# Altium schematic symbol library Bran.SCHLIB: 33 symbols
Pins are listed as number, name and electrical type; pins without a type are passive.

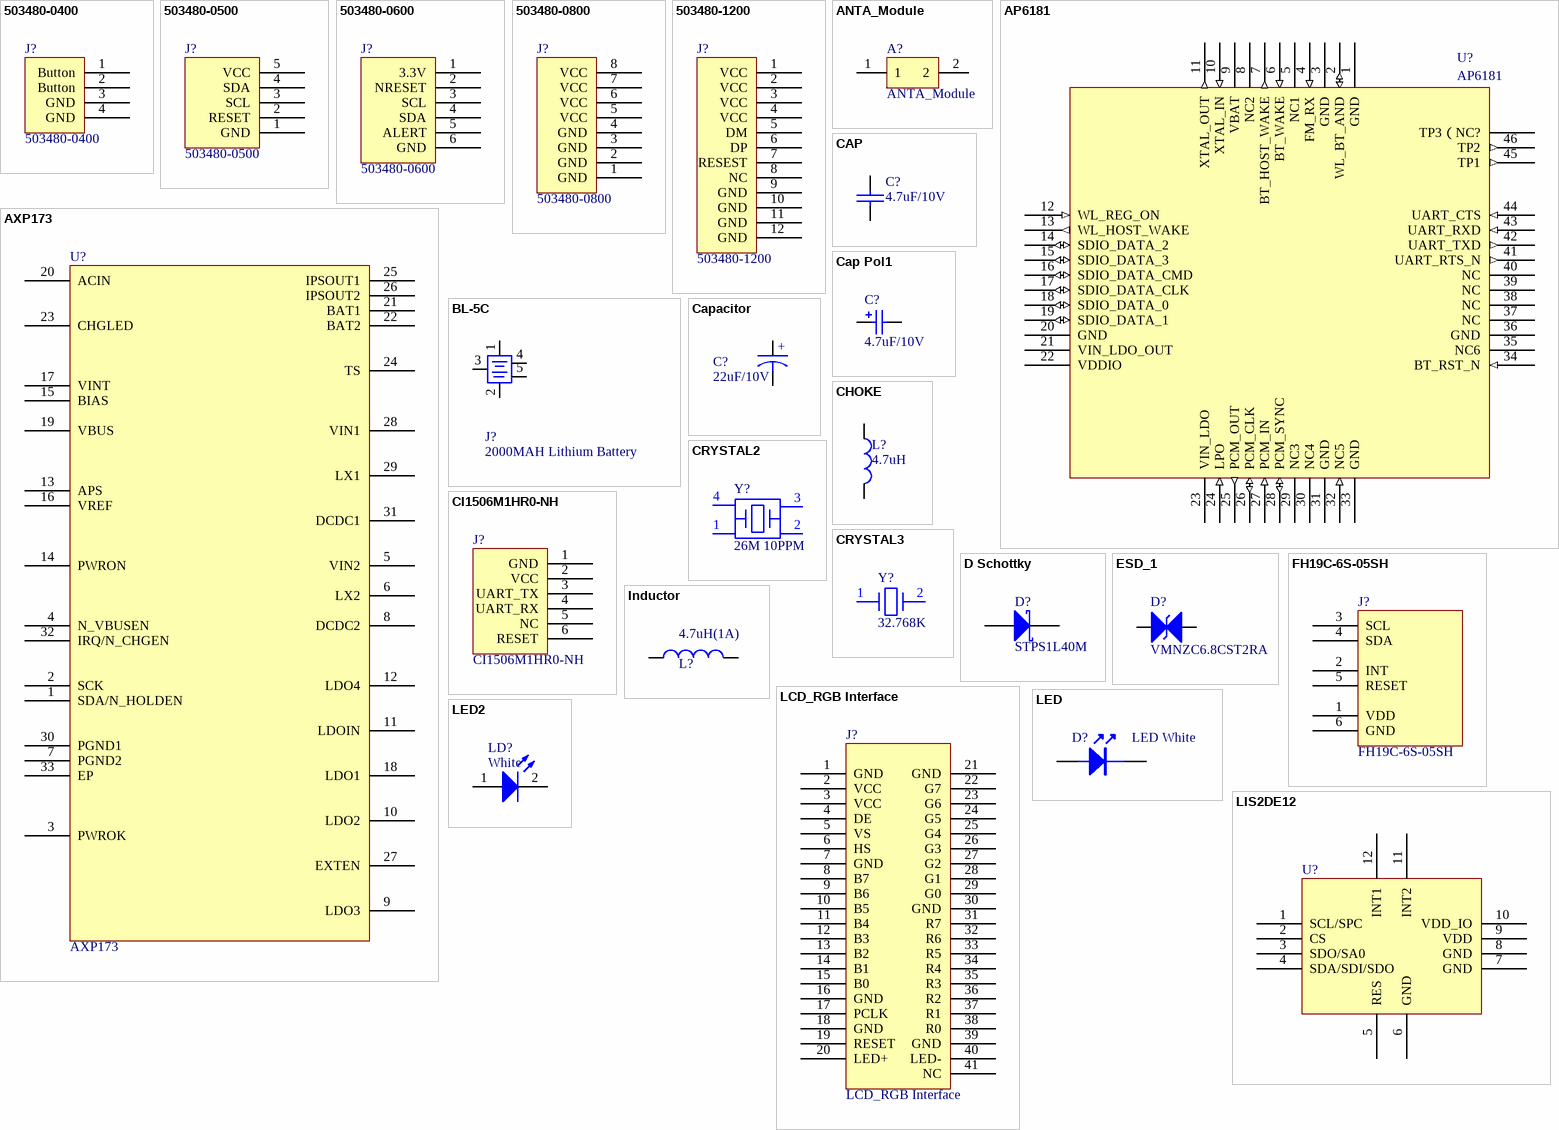
[diagram p0: symbols 503480-0400 to LIS2DE12]

## 503480-0400
designator J?
厂家：Molex，型号：503480-0400
pins: 1 Button, 2 Button, 3 GND, 4 GND

## 503480-0500
designator J?
厂家：Molex，型号：503480-0500
pins: 1 GND, 2 RESET, 3 SCL, 4 SDA, 5 VCC

## 503480-0600
designator J?
厂家：Molex，型号：503480-0600
pins: 1 3.3V, 2 NRESET, 3 SCL, 4 SDA, 5 ALERT, 6 GND

## 503480-0800
designator J?
厂家：Molex，型号：503480-0800
pins: 1 GND, 2 GND, 3 GND, 4 GND, 5 VCC, 6 VCC, 7 VCC, 8 VCC

## 503480-1200
designator J?
厂家：Molex，型号：503480-1200
pins: 1 VCC, 2 VCC, 3 VCC, 4 VCC, 5 DM, 6 DP, 7 RESEST, 8 NC, 9 GND, 10 GND, 11 GND, 12 GND

## ANTA_Module
designator A?
footprint 3216-ANTA
footprint IPEX
pins: 1, 2

## AP6181
designator U?
厂家：正基，型号：AP6181
pins: 1 GND (power), 2 WL_BT_AND (io), 3 GND (power), 4 FM_RX (in), 5 NC1, 6 BT_WAKE (in), 7 BT_HOST_WAKE (out), 8 NC2, 9 VBAT (power), 10 XTAL_IN (in), 11 XTAL_OUT (out), 12 WL_REG_ON (in), 13 WL_HOST_WAKE (out), 14 SDIO_DATA_2 (io), 15 SDIO_DATA_3 (io), 16 SDIO_DATA_CMD (io), 17 SDIO_DATA_CLK (io), 18 SDIO_DATA_0 (io), 19 SDIO_DATA_1 (io), 20 GND (power), 21 VIN_LDO_OUT (power), 22 VDDIO (power), 23 VIN_LDO (power), 24 LPO (in), 25 PCM_OUT (out), 26 PCM_CLK (io), 27 PCM_IN (in), 28 PCM_SYNC (io), 29 NC3, 30 NC4, 31 GND (power), 32 NC5 (in), 33 GND (power), 34 BT_RST_N (in), 35 NC6, 36 GND, 37 NC, 38 NC, 39 NC, 40 NC, 41 UART_RTS_N (out), 42 UART_TXD (out), 43 UART_RXD (in), 44 UART_CTS (in), 45 TP1 (out), 46 TP2 (out), ?1 TP3（NC?

## AXP173
designator U?
pins: 1 SDA/N_HOLDEN, 2 SCK, 3 PWROK, 4 N_VBUSEN, 5 VIN2, 6 LX2, 7 PGND2, 8 DCDC2, 9 LDO3, 10 LDO2, 11 LDOIN, 12 LDO4, 13 APS, 14 PWRON, 15 BIAS, 16 VREF, 17 VINT, 18 LDO1, 19 VBUS, 20 ACIN, 21 BAT1, 22 BAT2, 23 CHGLED, 24 TS, 25 IPSOUT1, 26 IPSOUT2, 27 EXTEN, 28 VIN1, 29 LX1, 30 PGND1, 31 DCDC1, 32 IRQ/N_CHGEN, 33 EP

## BL-5C
designator J?, comment 2000MAH Lithium Battery
footprint Battery - duplicate
footprint 1.25-2A
footprint 2.5-3A
footprint Molex-1-3A (Molex 5013310207)
pins: 1 VCC, 2 NTC, 3 GND, 4 PAD, 5 PAD
2 alternate drawings of the same symbol

## CAP
designator C?, comment 4.7uF/10V
厂家：Murata，型号：GRM155R71A104KA01D
footprint 0603C
footprint 0603C
footprint 0603C
footprint 0402C
pins: 1, 2
2 alternate drawings of the same symbol

## Cap Pol1
designator C?, comment 4.7uF/10V
Value: 100pF; Ordered by: Subcon; Published: 8-Jun-2000; Revision: July-2002: Re-released for DXP Platform.; Publisher: Altium Limited
footprint TAN-A (Footprint not found)
simulation model CAP (Capacitor)
signal-integrity model Cap Pol
footprint CAPPR1.5-4X5
footprint CAPPR1.27-1.96X4.06
footprint CAPPR2-5X6.8
footprint CAPPR5-5X5
footprint CAPPR7.5-16X35
footprint 3225C
footprint 1206
pins: 1, 2

## Capacitor
designator C?, comment 22uF/10V
footprint 0603C
footprint 3216
footprint 6032-1
footprint 3216
footprint 6032
footprint 6032
footprint 6032
pins: 1, 2
text: +

## CHOKE
designator L?, comment 4.7uH
footprint SM/L_0805_L
footprint SM/R_1206
footprint 1206
footprint coil inductance
footprint Inductance
pins: 1, 2
2 alternate drawings of the same symbol

## CI1506M1HR0-NH
designator J?
厂家：瀚荃股份，型号：CI1506M1HR0-NH
pins: 1 GND, 2 VCC, 3 UART_TX, 4 UART_RX, 5 NC, 6 RESET

## CRYSTAL2
designator Y?, comment 26M 10PPM
厂家：EPSON，型号：Q24FA20H0004400
footprint XTALSMD1 (5*3.2*)
footprint XTALSMD2-2520 (2.5*2  Epson)
pins: 1, 2, 3, 4

## CRYSTAL3
designator Y?, comment 32.768K
厂家：EPSON，型号：Q13FC1350000400
footprint XTALSMD1 (5*3.2*)
footprint XTALSMD2-3215 (3.2*1.5  32.768KHZ Epson)
pins: 1, 2

## D Schottky
designator D?, comment STPS1L40M
Schottky Diode; Code - JEDEC: DO-214-AA; Ordered by: ST; Ref St: 9151085; ECCN_US/EU: EAR99/NEC; Published: 8-Jun-2000; Revision: July-2002: Re-released for DXP Platform.; Publisher: Altium Limited; Manuf_1: ST; Manuf_Part_1: STPS1L40M
footprint 1R1C (Footprint not found)
footprint DO216AA
footprint DO-216AA (Footprint not found)
pins: 1 A, 2 K

## ESD_1
designator D?, comment VMNZC6.8CST2RA
厂家：ROHM，型号：VMNZC6.8CST2RA
footprint DO-214AC
footprint 0402
pins: 1 Diode1, 2 dIode2

## FH19C-6S-05SH
designator J?
ZIF connector placed bottom side; Manuf_1: ATOM; Manuf_2: Hirose; Manuf_Part_1: FPC05006-09200; Ordered by: Subcon; Silkscreen: TS; Manuf_Part_2: FH19C-6S-05SH
footprint FH19C-6S-05SH (Footprint not found)
footprint FH19C-6S-0R5SH_FPC_CPT
pins: 1 VDD, 2 INT, 3 SCL, 4 SDA, 5 RESET, 6 GND

## Inductor
designator L?, comment 4.7uH(1A)
Inductor; Value: 100uH; Ordered by: Subcon; Published: 8-Jun-2000; Revision: July-2002: Re-released for DXP Platform.; Publisher: Altium Limited
footprint 3225 (Footprint not found)
footprint 3225L
footprint LSM2_3R2X2R5_H1R55 (Footprint not found)
footprint 1210L (Footprint not found)
pins: 1, 2

## LCD_RGB Interface
designator J?
pins: 1 GND, 2 VCC, 3 VCC, 4 DE, 5 VS, 6 HS, 7 GND, 8 B7, 9 B6, 10 B5, 11 B4, 12 B3, 13 B2, 14 B1, 15 B0, 16 GND, 17 PCLK, 18 GND, 19 RESET, 20 LED+, 21 GND, 22 G7, 23 G6, 24 G5, 25 G4, 26 G3, 27 G2, 28 G1, 29 G0, 30 GND, 31 R7, 32 R6, 33 R5, 34 R4, 35 R3, 36 R2, 37 R1, 38 R0, 39 GND, 40 LED-, 41 NC

## LED
designator D?, comment LED White
厂家：ROHM，型号：SCMP13WBC8W1**
footprint 0402R
footprint 0402LED
footprint 0603C
footprint 0402R
footprint 0402LED
pins: 1, 2

## LED2
designator LD?, comment White
Typical RED, GREEN, YELLOW, AMBER GaAs LED; Ordered by: Subcon; ECCN_US/EU: EAR99/NEC; Published: 8-Jun-2000; Revision: July-2002: Re-released for DXP Platform.; Publisher: Altium Limited
footprint D0603 (Footprint not found)
footprint 0603D
pins: 1 A, 2 K

## LIS2DE12
designator U?
厂家：ST，型号：LIS2DH12
pins: 1 SCL/SPC, 2 CS, 3 SDO/SA0, 4 SDA/SDI/SDO, 5 RES, 6 GND, 7 GND, 8 GND, 9 VDD, 10 VDD_IO, 11 INT2, 12 INT1

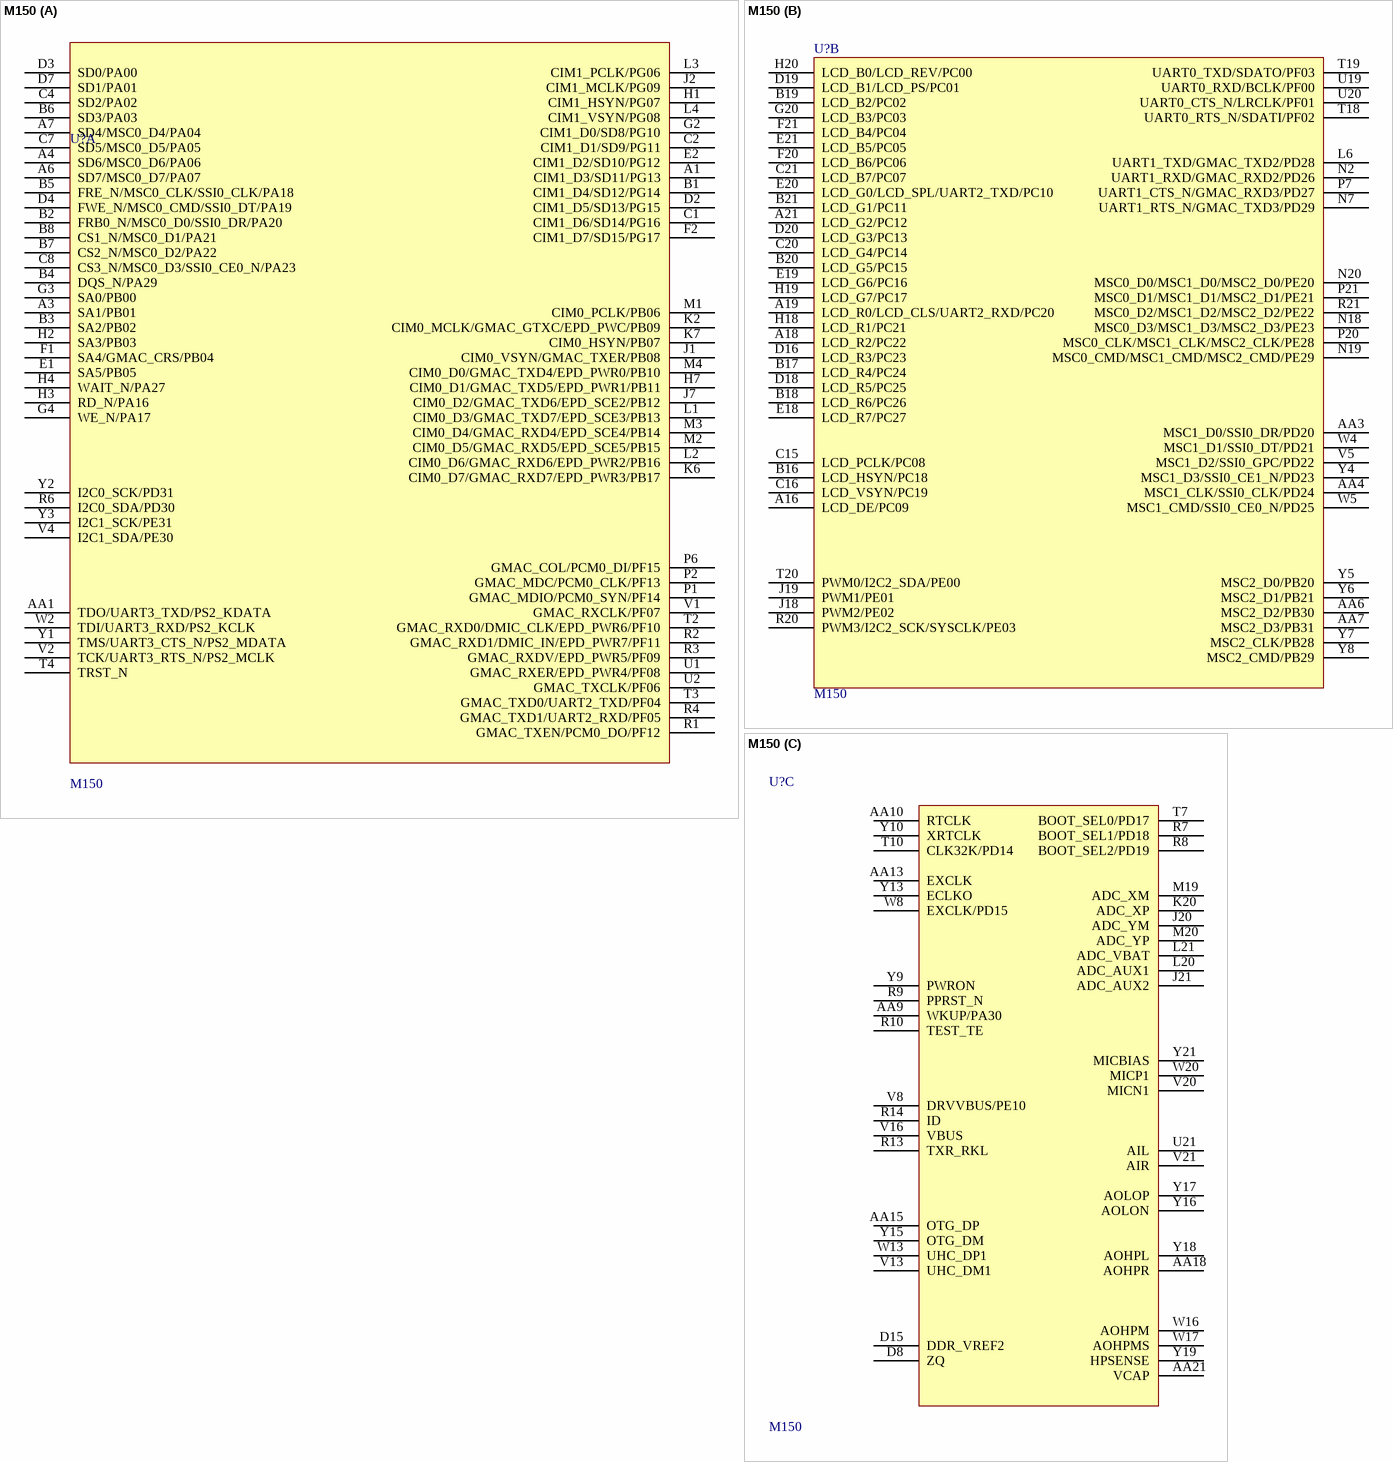
[diagram p1: symbol M150]

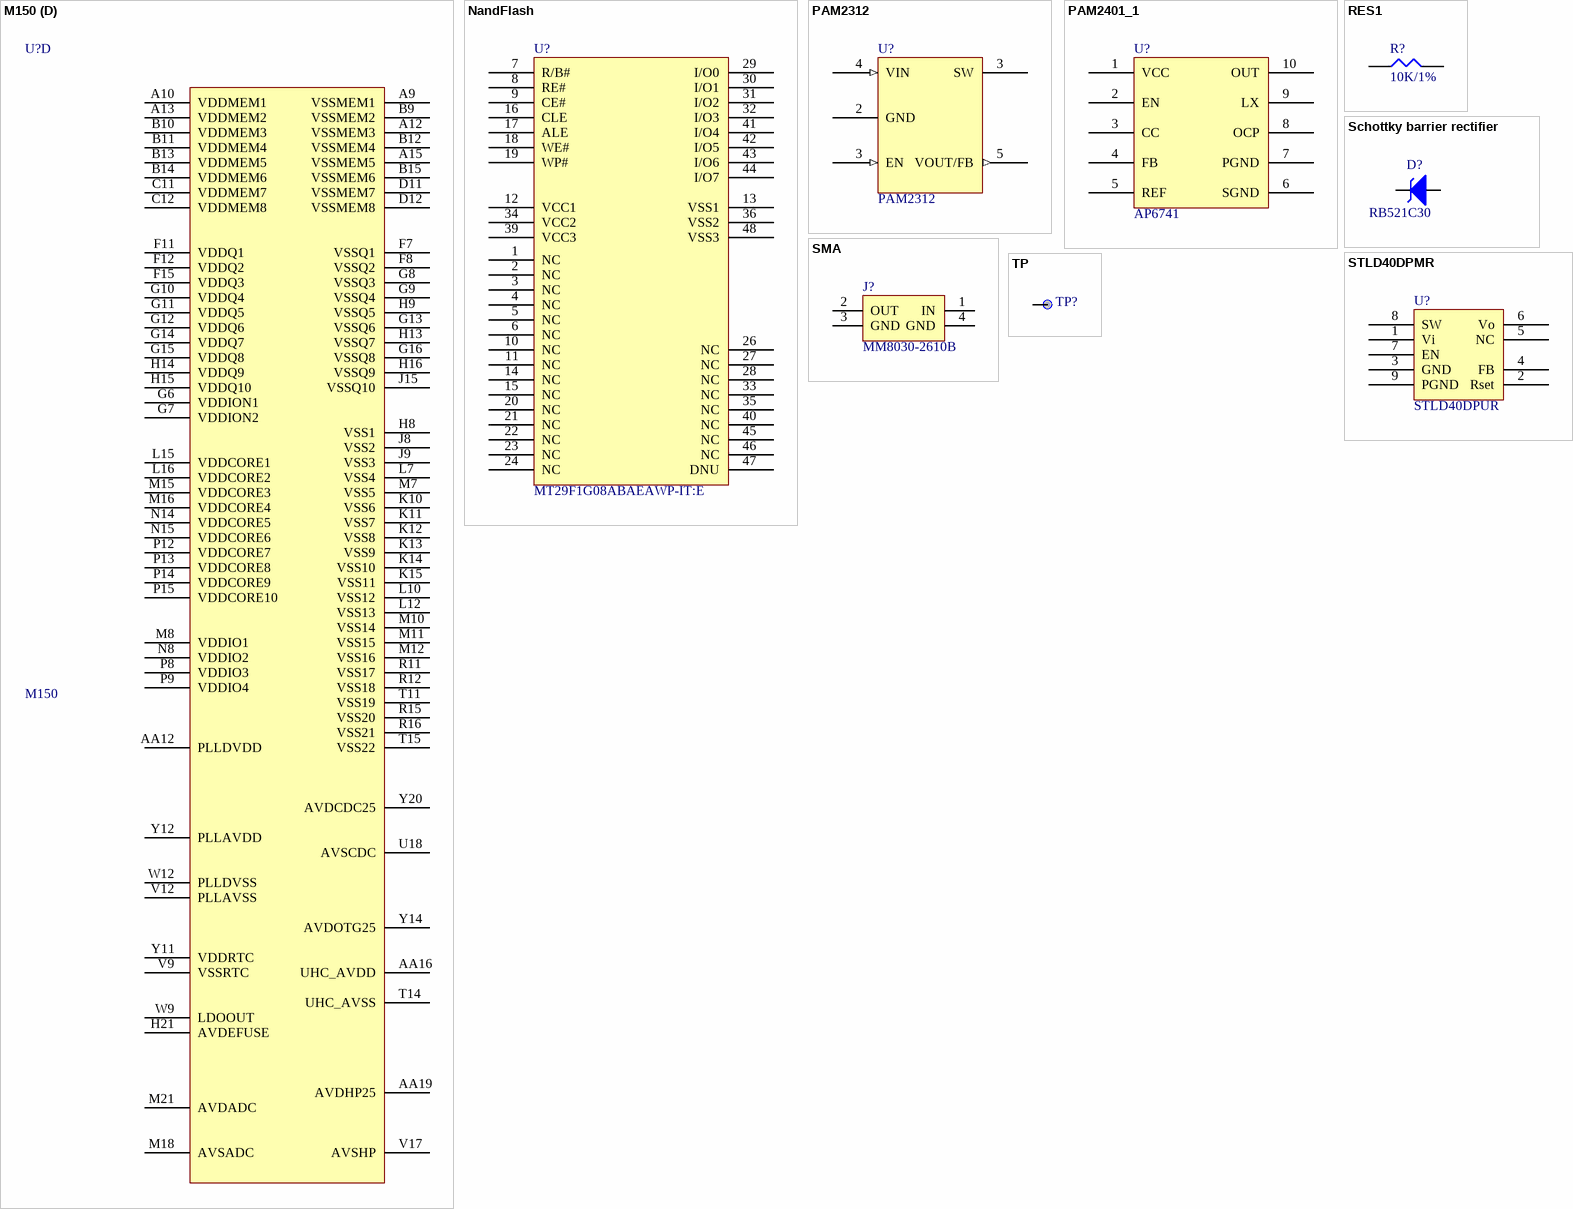
[diagram p2: symbols M150 to TP]

## M150
designator U?
footprint Model Name (Footprint not found)
part A pins: A1 CIM1_D3/SD11/PG13, A3 SA1/PB01, A4 SD6/MSC0_D6/PA06, A6 SD7/MSC0_D7/PA07, A7 SD4/MSC0_D4/PA04, AA1 TDO/UART3_TXD/PS2_KDATA, B1 CIM1_D4/SD12/PG14, B2 FRB0_N/MSC0_D0/SSI0_DR/PA20, B3 SA2/PB02, B4 DQS_N/PA29, B5 FRE_N/MSC0_CLK/SSI0_CLK/PA18, B6 SD3/PA03, B7 CS2_N/MSC0_D2/PA22, B8 CS1_N/MSC0_D1/PA21, C1 CIM1_D6/SD14/PG16, C2 CIM1_D1/SD9/PG11, C4 SD2/PA02, C7 SD5/MSC0_D5/PA05, C8 CS3_N/MSC0_D3/SSI0_CE0_N/PA23, D2 CIM1_D5/SD13/PG15, D3 SD0/PA00, D4 FWE_N/MSC0_CMD/SSI0_DT/PA19, D7 SD1/PA01, E1 SA5/PB05, E2 CIM1_D2/SD10/PG12, F1 SA4/GMAC_CRS/PB04, F2 CIM1_D7/SD15/PG17, G2 CIM1_D0/SD8/PG10, G3 SA0/PB00, G4 WE_N/PA17, H1 CIM1_HSYN/PG07, H2 SA3/PB03, H3 RD_N/PA16, H4 WAIT_N/PA27, H7 CIM0_D1/GMAC_TXD5/EPD_PWR1/PB11, J1 CIM0_VSYN/GMAC_TXER/PB08, J2 CIM1_MCLK/PG09, J7 CIM0_D2/GMAC_TXD6/EPD_SCE2/PB12, K2 CIM0_MCLK/GMAC_GTXC/EPD_PWC/PB09, K6 CIM0_D7/GMAC_RXD7/EPD_PWR3/PB17, K7 CIM0_HSYN/PB07, L1 CIM0_D3/GMAC_TXD7/EPD_SCE3/PB13, L2 CIM0_D6/GMAC_RXD6/EPD_PWR2/PB16, L3 CIM1_PCLK/PG06, L4 CIM1_VSYN/PG08, M1 CIM0_PCLK/PB06, M2 CIM0_D5/GMAC_RXD5/EPD_SCE5/PB15, M3 CIM0_D4/GMAC_RXD4/EPD_SCE4/PB14, M4 CIM0_D0/GMAC_TXD4/EPD_PWR0/PB10, P1 GMAC_MDIO/PCM0_SYN/PF14, P2 GMAC_MDC/PCM0_CLK/PF13, P6 GMAC_COL/PCM0_DI/PF15, R1 GMAC_TXEN/PCM0_DO/PF12, R2 GMAC_RXD1/DMIC_IN/EPD_PWR7/PF11, R3 GMAC_RXDV/EPD_PWR5/PF09, R4 GMAC_TXD1/UART2_RXD/PF05, R6 I2C0_SDA/PD30, T2 GMAC_RXD0/DMIC_CLK/EPD_PWR6/PF10, T3 GMAC_TXD0/UART2_TXD/PF04, T4 TRST_N, U1 GMAC_RXER/EPD_PWR4/PF08, U2 GMAC_TXCLK/PF06, V1 GMAC_RXCLK/PF07, V2 TCK/UART3_RTS_N/PS2_MCLK, V4 I2C1_SDA/PE30, W2 TDI/UART3_RXD/PS2_KCLK, Y1 TMS/UART3_CTS_N/PS2_MDATA, Y2 I2C0_SCK/PD31, Y3 I2C1_SCK/PE31
part B pins: A16 LCD_DE/PC09, A18 LCD_R2/PC22, A19 LCD_R0/LCD_CLS/UART2_RXD/PC20, A21 LCD_G2/PC12, AA3 MSC1_D0/SSI0_DR/PD20, AA4 MSC1_CLK/SSI0_CLK/PD24, AA6 MSC2_D2/PB30, AA7 MSC2_D3/PB31, B16 LCD_HSYN/PC18, B17 LCD_R4/PC24, B18 LCD_R6/PC26, B19 LCD_B2/PC02, B20 LCD_G5/PC15, B21 LCD_G1/PC11, C15 LCD_PCLK/PC08, C16 LCD_VSYN/PC19, C20 LCD_G4/PC14, C21 LCD_B7/PC07, D16 LCD_R3/PC23, D18 LCD_R5/PC25, D19 LCD_B1/LCD_PS/PC01, D20 LCD_G3/PC13, E18 LCD_R7/PC27, E19 LCD_G6/PC16, E20 LCD_G0/LCD_SPL/UART2_TXD/PC10, E21 LCD_B5/PC05, F20 LCD_B6/PC06, F21 LCD_B4/PC04, G20 LCD_B3/PC03, H18 LCD_R1/PC21, H19 LCD_G7/PC17, H20 LCD_B0/LCD_REV/PC00, J18 PWM2/PE02, J19 PWM1/PE01, L6 UART1_TXD/GMAC_TXD2/PD28, N2 UART1_RXD/GMAC_RXD2/PD26, N7 UART1_RTS_N/GMAC_TXD3/PD29, N18 MSC0_D3/MSC1_D3/MSC2_D3/PE23, N19 MSC0_CMD/MSC1_CMD/MSC2_CMD/PE29, N20 MSC0_D0/MSC1_D0/MSC2_D0/PE20, P7 UART1_CTS_N/GMAC_RXD3/PD27, P20 MSC0_CLK/MSC1_CLK/MSC2_CLK/PE28, P21 MSC0_D1/MSC1_D1/MSC2_D1/PE21, R20 PWM3/I2C2_SCK/SYSCLK/PE03, R21 MSC0_D2/MSC1_D2/MSC2_D2/PE22, T18 UART0_RTS_N/SDATI/PF02, T19 UART0_TXD/SDATO/PF03, T20 PWM0/I2C2_SDA/PE00, U19 UART0_RXD/BCLK/PF00, U20 UART0_CTS_N/LRCLK/PF01, V5 MSC1_D2/SSI0_GPC/PD22, W4 MSC1_D1/SSI0_DT/PD21, W5 MSC1_CMD/SSI0_CE0_N/PD25, Y4 MSC1_D3/SSI0_CE1_N/PD23, Y5 MSC2_D0/PB20, Y6 MSC2_D1/PB21, Y7 MSC2_CLK/PB28, Y8 MSC2_CMD/PB29
part C pins: AA9 WKUP/PA30, AA10 RTCLK, AA13 EXCLK, AA15 OTG_DP, AA18 AOHPR, AA21 VCAP, D8 ZQ, D15 DDR_VREF2, J20 ADC_YM, J21 ADC_AUX2, K20 ADC_XP, L20 ADC_AUX1, L21 ADC_VBAT, M19 ADC_XM, M20 ADC_YP, R7 BOOT_SEL1/PD18, R8 BOOT_SEL2/PD19, R9 PPRST_N, R10 TEST_TE, R13 TXR_RKL, R14 ID, T7 BOOT_SEL0/PD17, T10 CLK32K/PD14, U21 AIL, V8 DRVVBUS/PE10, V13 UHC_DM1, V16 VBUS, V20 MICN1, V21 AIR, W8 EXCLK/PD15, W13 UHC_DP1, W16 AOHPM, W17 AOHPMS, W20 MICP1, Y9 PWRON, Y10 XRTCLK, Y13 ECLKO, Y15 OTG_DM, Y16 AOLON, Y17 AOLOP, Y18 AOHPL, Y19 HPSENSE, Y21 MICBIAS
part D pins: A9 VSSMEM1, A10 VDDMEM1, A12 VSSMEM3, A13 VDDMEM2, A15 VSSMEM5, AA12 PLLDVDD, AA16 UHC_AVDD, AA19 AVDHP25, B9 VSSMEM2, B10 VDDMEM3, B11 VDDMEM4, B12 VSSMEM4, B13 VDDMEM5, B14 VDDMEM6, B15 VSSMEM6, C11 VDDMEM7, C12 VDDMEM8, D11 VSSMEM7, D12 VSSMEM8, F7 VSSQ1, F8 VSSQ2, F11 VDDQ1, F12 VDDQ2, F15 VDDQ3, G6 VDDION1, G7 VDDION2, G8 VSSQ3, G9 VSSQ4, G10 VDDQ4, G11 VDDQ5, G12 VDDQ6, G13 VSSQ6, G14 VDDQ7, G15 VDDQ8, G16 VSSQ8, H8 VSS1, H9 VSSQ5, H13 VSSQ7, H14 VDDQ9, H15 VDDQ10, H16 VSSQ9, H21 AVDEFUSE, J8 VSS2, J9 VSS3, J15 VSSQ10, K10 VSS6, K11 VSS7, K12 VSS8, K13 VSS9, K14 VSS10, K15 VSS11, L7 VSS4, L10 VSS12, L12 VSS13, L15 VDDCORE1, L16 VDDCORE2, M7 VSS5, M8 VDDIO1, M10 VSS14, M11 VSS15, M12 VSS16, M15 VDDCORE3, M16 VDDCORE4, M18 AVSADC, M21 AVDADC, N8 VDDIO2, N14 VDDCORE5, N15 VDDCORE6, P8 VDDIO3, P9 VDDIO4, P12 VDDCORE7, P13 VDDCORE8, P14 VDDCORE9, P15 VDDCORE10, R11 VSS17, R12 VSS18, R15 VSS20, R16 VSS21, T11 VSS19, T14 UHC_AVSS, T15 VSS22, U18 AVSCDC, V9 VSSRTC, V12 PLLAVSS, V17 AVSHP, W9 LDOOUT, W12 PLLDVSS, Y11 VDDRTC, Y12 PLLAVDD, Y14 AVDOTG25, Y20 AVDCDC25

## NandFlash
designator U?, comment MT29F1G08ABAEAWP-IT:E
pins: 1 NC (power), 2 NC (power), 3 NC (power), 4 NC (power), 5 NC (power), 6 NC (power), 7 R/B# (power), 8 RE# (power), 9 CE# (power), 10 NC (power), 11 NC (power), 12 VCC1 (power), 13 VSS1 (power), 14 NC (power), 15 NC (power), 16 CLE (power), 17 ALE (power), 18 WE# (power), 19 WP# (power), 20 NC (power), 21 NC (power), 22 NC (power), 23 NC (power), 24 NC (power), 26 NC (power), 27 NC (power), 28 NC (power), 29 I/O0 (power), 30 I/O1 (power), 31 I/O2 (power), 32 I/O3 (power), 33 NC (power), 34 VCC2 (power), 35 NC (power), 36 VSS2 (power), 39 VCC3 (power), 40 NC (power), 41 I/O4 (power), 42 I/O5 (power), 43 I/O6 (power), 44 I/O7 (power), 45 NC (power), 46 NC (power), 47 DNU (power), 48 VSS3 (power)

## PAM2312
designator U?
厂家：Diodes，型号：PAM2312TSOT255330; Manuf_1: MOLEX; Manuf_Part_1: 475900001; Ordered by: Subcon; Silkscreen: USB USER
footprint Model Name (Footprint not found)
footprint MOLEX_47590001 (Footprint not found)
pins: 2 GND, 3 EN (in), 3 SW, 4 VIN (in), 5 VOUT/FB (out)

## PAM2401_1
designator U?, comment AP6741
厂家：Diodes，型号：PAM2401YPADJ; Manuf_1: MOLEX; Manuf_Part_1: 475900001; Ordered by: Subcon; Silkscreen: USB USER
footprint Model Name (Footprint not found)
footprint MOLEX_47590001 (Footprint not found)
pins: 1 VCC, 2 EN, 3 CC, 4 FB, 5 REF, 6 SGND, 7 PGND, 8 OCP, 9 LX, 10 OUT

## RES1
designator R?, comment 10K/1%
厂家：Yageo，型号：RC0402FR-0710KL
footprint 0402R
footprint 0603C
footprint 0603R
footprint 0402R
pins: 1, 2
2 alternate drawings of the same symbol

## Schottky barrier rectifier
designator D?, comment RB521C30
厂家：ROHM，型号：RB480Y-90
footprint DO-214AC
footprint SOD123 (厂家：ROHM，型号：RB161M-20)
footprint SOD123 (厂家：ROHM，型号：RB161M-20)
footprint SOD123 (厂家：ROHM，型号：RB161M-20)
pins: 1 K, 2 A

## SMA
designator J?, comment MM8030-2610B
厂家：Murata，型号：MM8030-2610B
footprint 3216-ANTA
footprint IPEX
pins: 1 IN, 2 OUT, 3 GND, 4 GND

## STLD40DPMR
designator U?, comment STLD40DPUR
Ordered by: ST; Ref St: 9176009; ECCN_US/EU: EAR99/NEC; Manuf_1: ST; Manuf_Part_1: STLD40DPUR
footprint QFN8 (Footprint not found)
footprint QFNT8
footprint SON8_0R65_3X3 (Footprint not found)
footprint SON8_0R65_3X3_ST (Footprint not found)
pins: 1 Vi, 2 Rset, 3 GND, 4 FB, 5 NC, 6 Vo, 7 EN, 8 SW, 9 PGND

## TP
designator TP?  (value not drawn)
Ordered by: Subcon
footprint TP (Footprint not found)
footprint round1mm
footprint TP_C40
pins: 1